# EAGLE library part B78304B (library divers)
B78304B: Triple coupled inductor (Epcos) with ferrite core
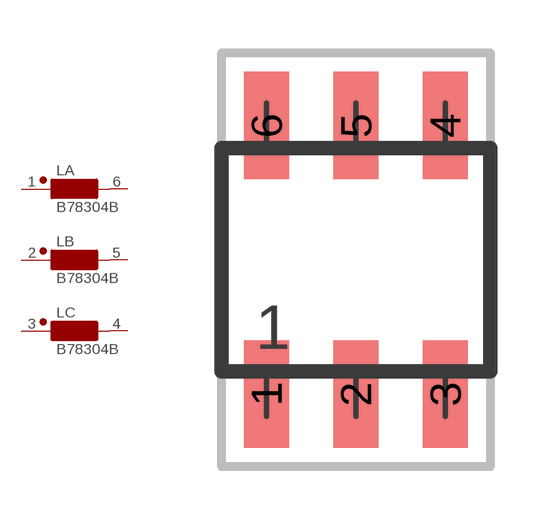
[diagram p20: symbol with the pads of B78304B; footprint B78304B]

Designator prefix L; gates A=L2 B=L2 C=L2

## B78304B  [B78304B]
1  A:1  pas
2  B:1  pas
3  C:1  pas
4  C:2  pas
5  B:2  pas
6  A:2  pas

## Footprint B78304B (pad centres in mm)
smd 1.27 x 3.048: 1 -2.54,-3.81; 2 0,-3.81; 3 2.54,-3.81; 4 2.54,3.81; 5 0,3.81; 6 -2.54,3.81